# Altium schematic symbol library F429Core.SchLib: 1 symbol
Pins are listed as number, name and electrical type; pins without a type are passive.

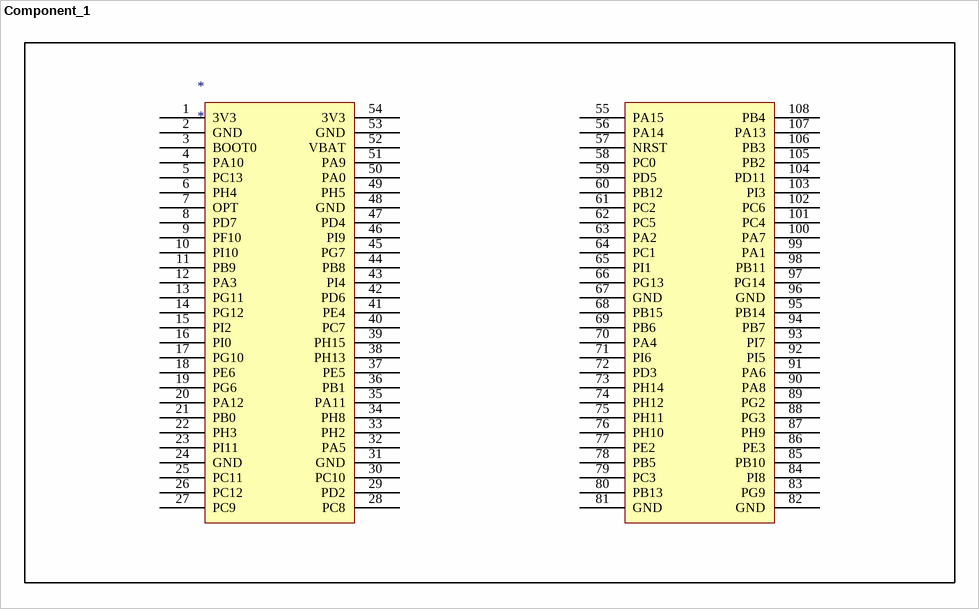
[diagram p0: symbol Component_1]

## Component_1
designator *
pins: 1 3V3, 2 GND, 3 BOOT0, 4 PA10, 5 PC13, 6 PH4, 7 OPT, 8 PD7, 9 PF10, 10 PI10, 11 PB9, 12 PA3, 13 PG11, 14 PG12, 15 PI2, 16 PI0, 17 PG10, 18 PE6, 19 PG6, 20 PA12, 21 PB0, 22 PH3, 23 PI11, 24 GND, 25 PC11, 26 PC12, 27 PC9, 28 PC8, 29 PD2, 30 PC10, 31 GND, 32 PA5, 33 PH2, 34 PH8, 35 PA11, 36 PB1, 37 PE5, 38 PH13, 39 PH15, 40 PC7, 41 PE4, 42 PD6, 43 PI4, 44 PB8, 45 PG7, 46 PI9, 47 PD4, 48 GND, 49 PH5, 50 PA0, 51 PA9, 52 VBAT, 53 GND, 54 3V3, 55 PA15, 56 PA14, 57 NRST, 58 PC0, 59 PD5, 60 PB12, 61 PC2, 62 PC5, 63 PA2, 64 PC1, 65 PI1, 66 PG13, 67 GND, 68 PB15, 69 PB6, 70 PA4, 71 PI6, 72 PD3, 73 PH14, 74 PH12, 75 PH11, 76 PH10, 77 PE2, 78 PB5, 79 PC3, 80 PB13, 81 GND, 82 GND, 83 PG9, 84 PI8, 85 PB10, 86 PE3, 87 PH9, 88 PG3, 89 PG2, 90 PA8, 91 PA6, 92 PI5, 93 PI7, 94 PB7, 95 PB14, 96 GND, 97 PG14, 98 PB11, 99 PA1, 100 PA7, 101 PC4, 102 PC6, 103 PI3, 104 PD11, 105 PB2, 106 PB3, 107 PA13, 108 PB4